# Altium footprint library B6B-ZR-SM4-TF.PcbLib: 1 footprints
Each footprint in its own frame and in the unit in brackets; x right, y up, seen from the top. Pads: shape width x height; smd on the part's side, far side on the other; paste and mask are expansions set on the pad; w line width, h text height; cw(c..) or ccw(c..) is an arc to the next point about the centre after c.
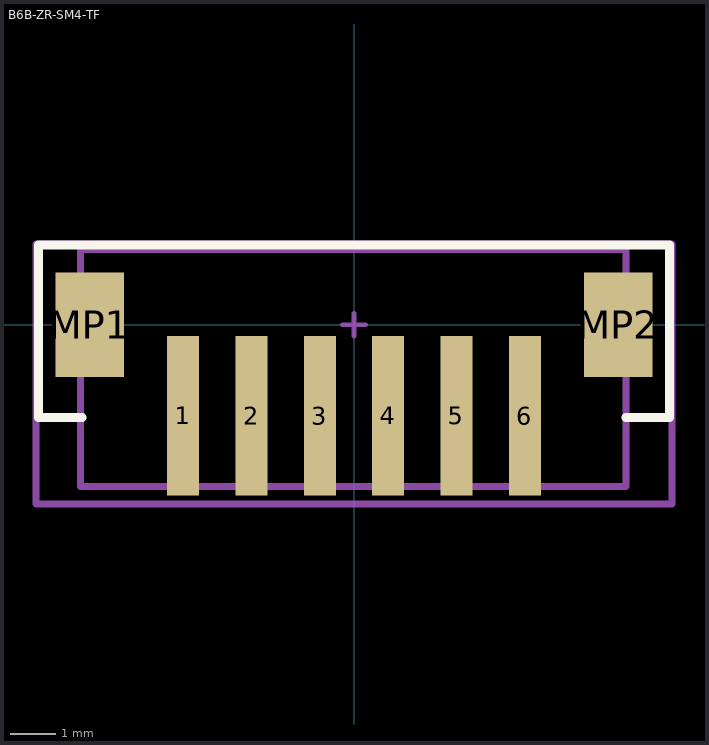
[diagram p0: the footprint, top view; thin cyan lines are the x and y axes]

## B6B-ZR-SM4-TF [mm] "Connector, 6Pitch, 1.5mm, SMD type"
height 5
pads (8):
  rect 0.7x3.5 smd: 1(-3.75,-2) 2(-2.25,-2) 3(-0.75,-2) 4(0.75,-2) 5(2.25,-2) 6(3.75,-2)
  rect 1.5x2.3 smd: MP1(-5.8,0) MP2(5.8,0)
Top Overlay:
  lines w0.2: -5.969,-2.032 -6.927,-2.032 -6.927,1.75 6.927,1.75 6.927,-2.032 5.969,-2.032
Mechanical 13:
  lines w0.152: -6,-3.549 5.969,-3.549 5.969,1.651 -6,1.651 -6,-3.549
Mechanical 15:
  lines w0.1: -0.254,0 0.254,0 ; 0,-0.254 0,0.254
  lines w0.152: -6.985,-3.937 5.969,-3.937 6.985,-3.937 6.985,1.778 -6.985,1.778 -6.985,-3.937
3D body: height 5, standoff 0, extent -6,-3.549 6,1.651